# Altium schematic symbol library jlcpcb_2025_04_inductors_extended_1008.schlib: 378 symbols (part 4 of 7)
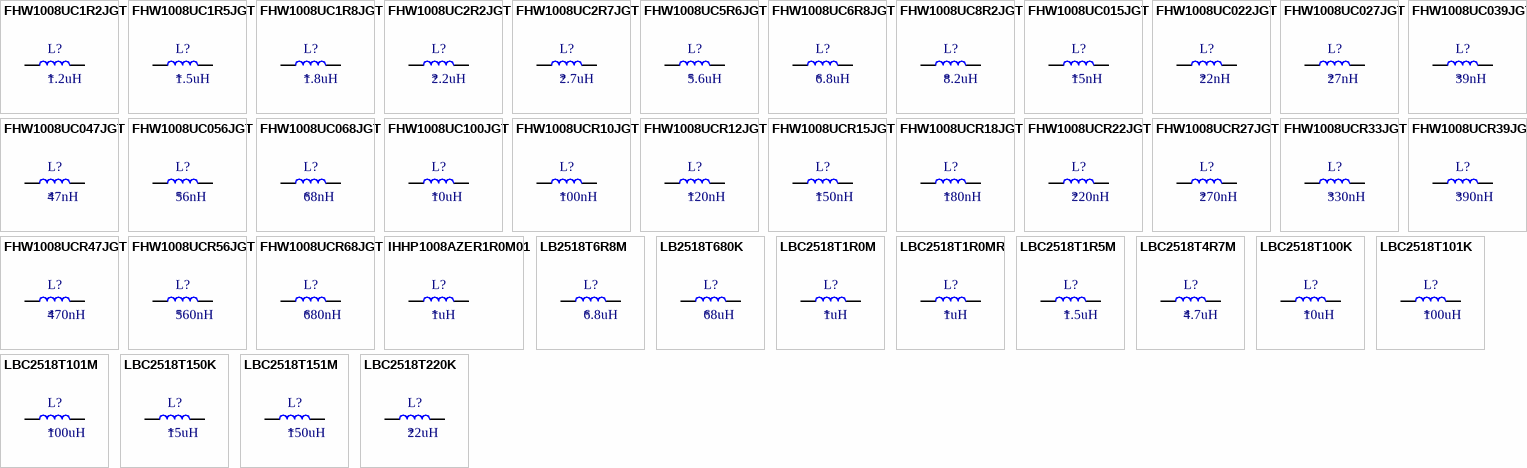
[diagram p12: symbols FHW1008UC1R2JGT to LBC2518T220K]

## LBC2518T151M
designator L?  Inductance: 150uH
Inductor, 150uH, ±20%, 6.1Ω, 95mA, SMD 1008; Manufacturer: Taiyo Yuden; Manufacturer Part Number: LBC2518T151M; Package Size: 1008; JLCPCB Basic Part: No; JLCPCB Part Number: C223355; Supplier 1: LCSC; Category: Inductors; Supplier Part Number 1: C223355; Tolerance: ±20%; Rated Current: 95mA; DC Resistance: 6.1Ω; RoHS: Yes; ComponentLink1Description: Datasheet; ComponentLink1URL: https://wmsc.lcsc.com/wmsc/upload/file/pdf/v2/lcsc/2304140030_Taiyo-Yuden-LBC2518T151M_C223355.pdf; ComponentLink2Description: JLCPCB Part URL; ComponentLink2URL: https://jlcpcb.com/partdetail/C223355; ComponentLink3Description: LCSC Part URL; ComponentLink3URL: https://lcsc.com/product-detail/Inductors-SMD_Taiyo-Yuden-Taiyo-Yuden-LBC2518T151M_C223355.html
footprint IND-1008 (1008 (2520M) Inductor)
pins: 1, 2

## LBC2518T220K
designator L?  Inductance: 22uH
Inductor, 22uH, ±10%, 770mΩ, 250mA, SMD 1008; Manufacturer: Taiyo Yuden; Manufacturer Part Number: LBC2518T220K; Self-Resonant Frequency: 2.52MHz; Package Size: 1008; JLCPCB Basic Part: No; JLCPCB Part Number: C223362; Supplier 1: LCSC; Category: Inductors; Supplier Part Number 1: C223362; Tolerance: ±10%; Rated Current: 250mA; DC Resistance: 770mΩ; RoHS: Yes; ComponentLink1Description: Datasheet; ComponentLink1URL: https://wmsc.lcsc.com/wmsc/upload/file/pdf/v2/lcsc/2304140030_Taiyo-Yuden-LBC2518T220K_C223362.pdf; ComponentLink2Description: JLCPCB Part URL; ComponentLink2URL: https://jlcpcb.com/partdetail/C223362; ComponentLink3Description: LCSC Part URL; ComponentLink3URL: https://lcsc.com/product-detail/Inductors-SMD_Taiyo-Yuden-Taiyo-Yuden-LBC2518T220K_C223362.html
footprint IND-1008 (1008 (2520M) Inductor)
pins: 1, 2

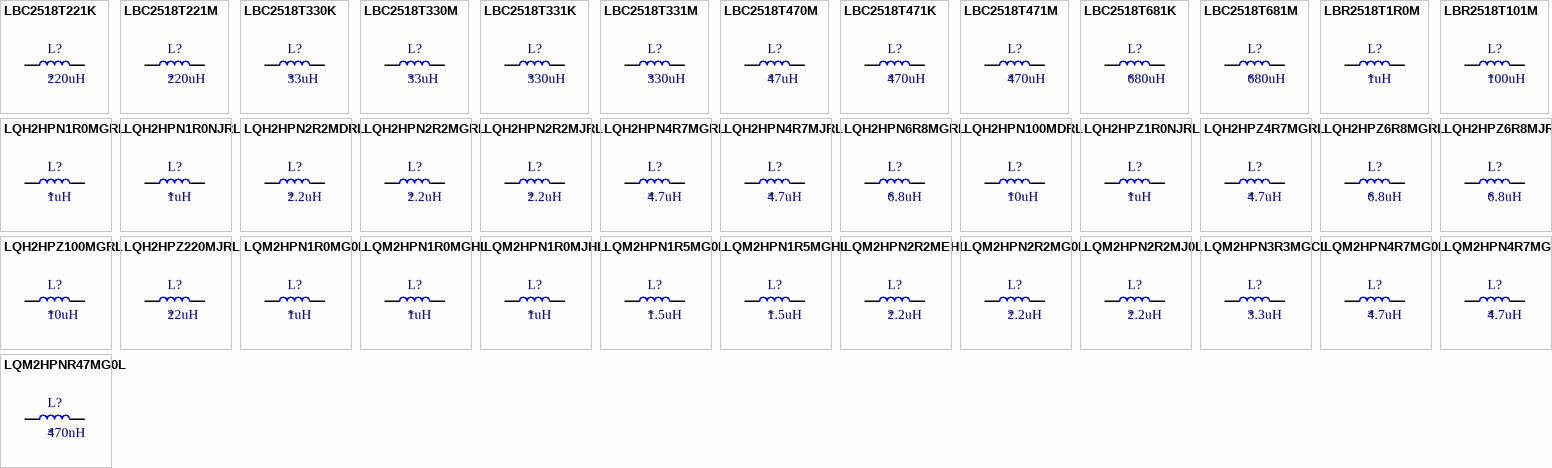
[diagram p4: symbols LBC2518T221K to LQM2HPNR47MG0L]

## LBC2518T221K
designator L?  Inductance: 220uH
Inductor, 220uH, ±10%, 8.4Ω, 80mA, SMD 1008; Manufacturer: Taiyo Yuden; Manufacturer Part Number: LBC2518T221K; Self-Resonant Frequency: 796kHz; Package Size: 1008; JLCPCB Basic Part: No; JLCPCB Part Number: C223367; Supplier 1: LCSC; Category: Inductors; Supplier Part Number 1: C223367; Tolerance: ±10%; Rated Current: 80mA; DC Resistance: 8.4Ω; RoHS: Yes; ComponentLink1Description: Datasheet; ComponentLink1URL: https://wmsc.lcsc.com/wmsc/upload/file/pdf/v2/lcsc/2304140030_Taiyo-Yuden-LBC2518T221K_C223367.pdf; ComponentLink2Description: JLCPCB Part URL; ComponentLink2URL: https://jlcpcb.com/partdetail/C223367; ComponentLink3Description: LCSC Part URL; ComponentLink3URL: https://lcsc.com/product-detail/Inductors-SMD_Taiyo-Yuden-Taiyo-Yuden-LBC2518T221K_C223367.html
footprint IND-1008 (1008 (2520M) Inductor)
pins: 1, 2

## LBC2518T221M
designator L?  Inductance: 220uH
Inductor, 220uH, ±20%, 8.4Ω, 80mA, SMD 1008; Manufacturer: Taiyo Yuden; Manufacturer Part Number: LBC2518T221M; Package Size: 1008; JLCPCB Basic Part: No; JLCPCB Part Number: C223356; Supplier 1: LCSC; Category: Inductors; Supplier Part Number 1: C223356; Tolerance: ±20%; Rated Current: 80mA; DC Resistance: 8.4Ω; RoHS: Yes; ComponentLink1Description: Datasheet; ComponentLink1URL: https://wmsc.lcsc.com/wmsc/upload/file/pdf/v2/lcsc/2304140030_Taiyo-Yuden-LBC2518T221M_C223356.pdf; ComponentLink2Description: JLCPCB Part URL; ComponentLink2URL: https://jlcpcb.com/partdetail/C223356; ComponentLink3Description: LCSC Part URL; ComponentLink3URL: https://lcsc.com/product-detail/Inductors-SMD_Taiyo-Yuden-Taiyo-Yuden-LBC2518T221M_C223356.html
footprint IND-1008 (1008 (2520M) Inductor)
pins: 1, 2

## LBC2518T330K
designator L?  Inductance: 33uH
Inductor, 33uH, ±10%, 1.5Ω, 185mA, SMD 1008; Manufacturer: Taiyo Yuden; Manufacturer Part Number: LBC2518T330K; Package Size: 1008; JLCPCB Basic Part: No; JLCPCB Part Number: C223363; Supplier 1: LCSC; Category: Inductors; Supplier Part Number 1: C223363; Tolerance: ±10%; Rated Current: 185mA; DC Resistance: 1.5Ω; RoHS: Yes; ComponentLink1Description: Datasheet; ComponentLink1URL: https://wmsc.lcsc.com/wmsc/upload/file/pdf/v2/lcsc/2304140030_Taiyo-Yuden-LBC2518T330K_C223363.pdf; ComponentLink2Description: JLCPCB Part URL; ComponentLink2URL: https://jlcpcb.com/partdetail/C223363; ComponentLink3Description: LCSC Part URL; ComponentLink3URL: https://lcsc.com/product-detail/Inductors-SMD_Taiyo-Yuden-Taiyo-Yuden-LBC2518T330K_C223363.html
footprint IND-1008 (1008 (2520M) Inductor)
pins: 1, 2

## LBC2518T330M
designator L?  Inductance: 33uH
Inductor, 33uH, ±20%, 1.5Ω, 185mA, SMD 1008; Manufacturer: Taiyo Yuden; Manufacturer Part Number: LBC2518T330M; Package Size: 1008; JLCPCB Basic Part: No; JLCPCB Part Number: C223351; Supplier 1: LCSC; Category: Inductors; Supplier Part Number 1: C223351; Tolerance: ±20%; Rated Current: 185mA; DC Resistance: 1.5Ω; RoHS: Yes; ComponentLink1Description: Datasheet; ComponentLink1URL: https://wmsc.lcsc.com/wmsc/upload/file/pdf/v2/lcsc/2304140030_Taiyo-Yuden-LBC2518T330M_C223351.pdf; ComponentLink2Description: JLCPCB Part URL; ComponentLink2URL: https://jlcpcb.com/partdetail/C223351; ComponentLink3Description: LCSC Part URL; ComponentLink3URL: https://lcsc.com/product-detail/Inductors-SMD_Taiyo-Yuden-Taiyo-Yuden-LBC2518T330M_C223351.html
footprint IND-1008 (1008 (2520M) Inductor)
pins: 1, 2

## LBC2518T331K
designator L?  Inductance: 330uH
Inductor, 330uH, ±10%, 12.3Ω, 65mA, SMD 1008; Manufacturer: Taiyo Yuden; Manufacturer Part Number: LBC2518T331K; Self-Resonant Frequency: 796kHz; Package Size: 1008; JLCPCB Basic Part: No; JLCPCB Part Number: C223368; Supplier 1: LCSC; Category: Inductors; Supplier Part Number 1: C223368; Tolerance: ±10%; Rated Current: 65mA; DC Resistance: 12.3Ω; RoHS: Yes; ComponentLink1Description: Datasheet; ComponentLink1URL: https://wmsc.lcsc.com/wmsc/upload/file/pdf/v2/lcsc/2304140030_Taiyo-Yuden-LBC2518T331K_C223368.pdf; ComponentLink2Description: JLCPCB Part URL; ComponentLink2URL: https://jlcpcb.com/partdetail/C223368; ComponentLink3Description: LCSC Part URL; ComponentLink3URL: https://lcsc.com/product-detail/Inductors-SMD_Taiyo-Yuden-Taiyo-Yuden-LBC2518T331K_C223368.html
footprint IND-1008 (1008 (2520M) Inductor)
pins: 1, 2

## LBC2518T331M
designator L?  Inductance: 330uH
Inductor, 330uH, ±20%, 12.3Ω, 65mA, SMD 1008; Manufacturer: Taiyo Yuden; Manufacturer Part Number: LBC2518T331M; Package Size: 1008; JLCPCB Basic Part: No; JLCPCB Part Number: C223357; Supplier 1: LCSC; Category: Inductors; Supplier Part Number 1: C223357; Tolerance: ±20%; Rated Current: 65mA; DC Resistance: 12.3Ω; RoHS: Yes; ComponentLink1Description: Datasheet; ComponentLink1URL: https://wmsc.lcsc.com/wmsc/upload/file/pdf/v2/lcsc/2304140030_Taiyo-Yuden-LBC2518T331M_C223357.pdf; ComponentLink2Description: JLCPCB Part URL; ComponentLink2URL: https://jlcpcb.com/partdetail/C223357; ComponentLink3Description: LCSC Part URL; ComponentLink3URL: https://lcsc.com/product-detail/Inductors-SMD_Taiyo-Yuden-Taiyo-Yuden-LBC2518T331M_C223357.html
footprint IND-1008 (1008 (2520M) Inductor)
pins: 1, 2

## LBC2518T470M
designator L?  Inductance: 47uH
Inductor, 47uH, ±20%, 1.9Ω, 165mA, SMD 1008; Manufacturer: Taiyo Yuden; Manufacturer Part Number: LBC2518T470M; Package Size: 1008; JLCPCB Basic Part: No; JLCPCB Part Number: C223352; Supplier 1: LCSC; Category: Inductors; Supplier Part Number 1: C223352; Tolerance: ±20%; Rated Current: 165mA; DC Resistance: 1.9Ω; RoHS: Yes; ComponentLink1Description: Datasheet; ComponentLink1URL: https://wmsc.lcsc.com/wmsc/upload/file/pdf/v2/lcsc/2304140030_Taiyo-Yuden-LBC2518T470M_C223352.pdf; ComponentLink2Description: JLCPCB Part URL; ComponentLink2URL: https://jlcpcb.com/partdetail/C223352; ComponentLink3Description: LCSC Part URL; ComponentLink3URL: https://lcsc.com/product-detail/Inductors-SMD_Taiyo-Yuden-Taiyo-Yuden-LBC2518T470M_C223352.html
footprint IND-1008 (1008 (2520M) Inductor)
pins: 1, 2

## LBC2518T471K
designator L?  Inductance: 470uH
Inductor, 470uH, ±10%, 22Ω, 50mA, SMD 1008; Manufacturer: Taiyo Yuden; Manufacturer Part Number: LBC2518T471K; Self-Resonant Frequency: 796kHz; Package Size: 1008; JLCPCB Basic Part: No; JLCPCB Part Number: C223369; Supplier 1: LCSC; Category: Inductors; Supplier Part Number 1: C223369; Tolerance: ±10%; Rated Current: 50mA; DC Resistance: 22Ω; RoHS: Yes; ComponentLink1Description: Datasheet; ComponentLink1URL: https://wmsc.lcsc.com/wmsc/upload/file/pdf/v2/lcsc/2304140030_Taiyo-Yuden-LBC2518T471K_C223369.pdf; ComponentLink2Description: JLCPCB Part URL; ComponentLink2URL: https://jlcpcb.com/partdetail/C223369; ComponentLink3Description: LCSC Part URL; ComponentLink3URL: https://lcsc.com/product-detail/Inductors-SMD_Taiyo-Yuden-Taiyo-Yuden-LBC2518T471K_C223369.html
footprint IND-1008 (1008 (2520M) Inductor)
pins: 1, 2

## LBC2518T471M
designator L?  Inductance: 470uH
Inductor, 470uH, ±20%, 22Ω, 50mA, SMD 1008; Manufacturer: Taiyo Yuden; Manufacturer Part Number: LBC2518T471M; Self-Resonant Frequency: 796kHz; Package Size: 1008; JLCPCB Basic Part: No; JLCPCB Part Number: C223358; Supplier 1: LCSC; Category: Inductors; Supplier Part Number 1: C223358; Tolerance: ±20%; Rated Current: 50mA; DC Resistance: 22Ω; RoHS: Yes; ComponentLink1Description: Datasheet; ComponentLink1URL: https://wmsc.lcsc.com/wmsc/upload/file/pdf/v2/lcsc/2304140030_Taiyo-Yuden-LBC2518T471M_C223358.pdf; ComponentLink2Description: JLCPCB Part URL; ComponentLink2URL: https://jlcpcb.com/partdetail/C223358; ComponentLink3Description: LCSC Part URL; ComponentLink3URL: https://lcsc.com/product-detail/Inductors-SMD_Taiyo-Yuden-Taiyo-Yuden-LBC2518T471M_C223358.html
footprint IND-1008 (1008 (2520M) Inductor)
pins: 1, 2

## LBC2518T681K
designator L?  Inductance: 680uH
Inductor, 680uH, ±10%, 28Ω, 45mA, SMD 1008; Manufacturer: Taiyo Yuden; Manufacturer Part Number: LBC2518T681K; Package Size: 1008; JLCPCB Basic Part: No; JLCPCB Part Number: C223370; Supplier 1: LCSC; Category: Inductors; Supplier Part Number 1: C223370; Tolerance: ±10%; Rated Current: 45mA; DC Resistance: 28Ω; RoHS: Yes; ComponentLink1Description: Datasheet; ComponentLink1URL: https://wmsc.lcsc.com/wmsc/upload/file/pdf/v2/lcsc/2304140030_Taiyo-Yuden-LBC2518T681K_C223370.pdf; ComponentLink2Description: JLCPCB Part URL; ComponentLink2URL: https://jlcpcb.com/partdetail/C223370; ComponentLink3Description: LCSC Part URL; ComponentLink3URL: https://lcsc.com/product-detail/Inductors-SMD_Taiyo-Yuden-Taiyo-Yuden-LBC2518T681K_C223370.html
footprint IND-1008 (1008 (2520M) Inductor)
pins: 1, 2

## LBC2518T681M
designator L?  Inductance: 680uH
Inductor, 680uH, ±20%, 28Ω, 45mA, SMD 1008; Manufacturer: Taiyo Yuden; Manufacturer Part Number: LBC2518T681M; Self-Resonant Frequency: 796kHz; Package Size: 1008; JLCPCB Basic Part: No; JLCPCB Part Number: C223359; Supplier 1: LCSC; Category: Inductors; Supplier Part Number 1: C223359; Tolerance: ±20%; Rated Current: 45mA; DC Resistance: 28Ω; RoHS: Yes; ComponentLink1Description: Datasheet; ComponentLink1URL: https://wmsc.lcsc.com/wmsc/upload/file/pdf/v2/lcsc/2304140030_Taiyo-Yuden-LBC2518T681M_C223359.pdf; ComponentLink2Description: JLCPCB Part URL; ComponentLink2URL: https://jlcpcb.com/partdetail/C223359; ComponentLink3Description: LCSC Part URL; ComponentLink3URL: https://lcsc.com/product-detail/Inductors-SMD_Taiyo-Yuden-Taiyo-Yuden-LBC2518T681M_C223359.html
footprint IND-1008 (1008 (2520M) Inductor)
pins: 1, 2

## LBR2518T1R0M
designator L?  Inductance: 1uH
Inductor, 1uH, ±20%, 45mΩ, 960mA, SMD 1008; Manufacturer: Taiyo Yuden; Manufacturer Part Number: LBR2518T1R0M; Self-Resonant Frequency: 7.96MHz; Package Size: 1008; JLCPCB Basic Part: No; JLCPCB Part Number: C223371; Supplier 1: LCSC; Category: Inductors; Supplier Part Number 1: C223371; Tolerance: ±20%; Rated Current: 960mA; DC Resistance: 45mΩ; RoHS: Yes; ComponentLink1Description: Datasheet; ComponentLink1URL: https://wmsc.lcsc.com/wmsc/upload/file/pdf/v2/lcsc/2304140030_Taiyo-Yuden-LBR2518T1R0M_C223371.pdf; ComponentLink2Description: JLCPCB Part URL; ComponentLink2URL: https://jlcpcb.com/partdetail/C223371; ComponentLink3Description: LCSC Part URL; ComponentLink3URL: https://lcsc.com/product-detail/Inductors-SMD_Taiyo-Yuden-Taiyo-Yuden-LBR2518T1R0M_C223371.html
footprint IND-1008 (1008 (2520M) Inductor)
pins: 1, 2

## LBR2518T101M
designator L?  Inductance: 100uH
Inductor, 100uH, ±20%, 1.89Ω, 80mA, SMD 1008; Manufacturer: Taiyo Yuden; Manufacturer Part Number: LBR2518T101M; Self-Resonant Frequency: 796kHz; Package Size: 1008; JLCPCB Basic Part: No; JLCPCB Part Number: C223378; Supplier 1: LCSC; Category: Inductors; Supplier Part Number 1: C223378; Tolerance: ±20%; Rated Current: 80mA; DC Resistance: 1.89Ω; RoHS: Yes; ComponentLink1Description: Datasheet; ComponentLink1URL: https://wmsc.lcsc.com/wmsc/upload/file/pdf/v2/lcsc/2304140030_Taiyo-Yuden-LBR2518T101M_C223378.pdf; ComponentLink2Description: JLCPCB Part URL; ComponentLink2URL: https://jlcpcb.com/partdetail/C223378; ComponentLink3Description: LCSC Part URL; ComponentLink3URL: https://lcsc.com/product-detail/Inductors-SMD_Taiyo-Yuden-Taiyo-Yuden-LBR2518T101M_C223378.html
footprint IND-1008 (1008 (2520M) Inductor)
pins: 1, 2

## LQH2HPN1R0MGRL
designator L?  Inductance: 1uH
Inductor, 1uH, ±20%, 68mΩ, 2.1A, SMD 1008; Manufacturer: Murata Electronics; Manufacturer Part Number: LQH2HPN1R0MGRL; Saturation Current: 2.13A; Package Size: 1008; JLCPCB Basic Part: No; JLCPCB Part Number: C269783; Supplier 1: LCSC; Category: Inductors; Supplier Part Number 1: C269783; Tolerance: ±20%; Rated Current: 2.1A; DC Resistance: 68mΩ; RoHS: Yes; ComponentLink1Description: Datasheet; ComponentLink1URL: https://wmsc.lcsc.com/wmsc/upload/file/pdf/v2/lcsc/2304140030_Murata-Electronics-LQH2HPN1R0MGRL_C269783.pdf; ComponentLink2Description: JLCPCB Part URL; ComponentLink2URL: https://jlcpcb.com/partdetail/C269783; ComponentLink3Description: LCSC Part URL; ComponentLink3URL: https://lcsc.com/product-detail/Power-Inductors_Murata-Electronics-Murata-Electronics-LQH2HPN1R0MGRL_C269783.html
footprint IND-1008 (1008 (2520M) Inductor)
pins: 1, 2

## LQH2HPN1R0NJRL
designator L?  Inductance: 1uH
Inductor, 1uH, ±30%, 48mΩ, 1.44A, SMD 1008; Manufacturer: Murata Electronics; Manufacturer Part Number: LQH2HPN1R0NJRL; Saturation Current: 2.6A; Self-Resonant Frequency: 120MHz; Package Size: 1008; JLCPCB Basic Part: No; JLCPCB Part Number: C711114; Supplier 1: LCSC; Category: Inductors; Supplier Part Number 1: C711114; Tolerance: ±30%; Rated Current: 1.44A; DC Resistance: 48mΩ; RoHS: Yes; ComponentLink1Description: Datasheet; ComponentLink1URL: https://wmsc.lcsc.com/wmsc/upload/file/pdf/v2/lcsc/2304140030_Murata-Electronics-LQH2HPN1R0NJRL_C711114.pdf; ComponentLink2Description: JLCPCB Part URL; ComponentLink2URL: https://jlcpcb.com/partdetail/C711114; ComponentLink3Description: LCSC Part URL; ComponentLink3URL: https://lcsc.com/product-detail/Inductors-SMD_Murata-Electronics-Murata-Electronics-LQH2HPN1R0NJRL_C711114.html
footprint IND-1008 (1008 (2520M) Inductor)
pins: 1, 2

## LQH2HPN2R2MDRL
designator L?  Inductance: 2.2uH
Inductor, 2.2uH, ±20%, 340mΩ, 820mA, SMD 1008; Manufacturer: Murata Electronics; Manufacturer Part Number: LQH2HPN2R2MDRL; Saturation Current: 850mA; Package Size: 1008; JLCPCB Basic Part: No; JLCPCB Part Number: C2042740; Supplier 1: LCSC; Category: Inductors; Supplier Part Number 1: C2042740; Tolerance: ±20%; Rated Current: 820mA; DC Resistance: 340mΩ; RoHS: Yes; ComponentLink1Description: Datasheet; ComponentLink1URL: https://wmsc.lcsc.com/wmsc/upload/file/pdf/v2/lcsc/2304140030_Murata-Electronics-LQH2HPN2R2MDRL_C2042740.pdf; ComponentLink2Description: JLCPCB Part URL; ComponentLink2URL: https://jlcpcb.com/partdetail/C2042740; ComponentLink3Description: LCSC Part URL; ComponentLink3URL: https://lcsc.com/product-detail/Power-Inductors_Murata-Electronics-Murata-Electronics-LQH2HPN2R2MDRL_C2042740.html
footprint IND-1008 (1008 (2520M) Inductor)
pins: 1, 2

## LQH2HPN2R2MGRL
designator L?  Inductance: 2.2uH
Inductor, 2.2uH, ±20%, 134mΩ, SMD 1008; Manufacturer: Murata Electronics; Manufacturer Part Number: LQH2HPN2R2MGRL; Self-Resonant Frequency: 80MHz; Package Size: 1008; JLCPCB Basic Part: No; JLCPCB Part Number: C237484; Supplier 1: LCSC; Category: Inductors; Supplier Part Number 1: C237484; Tolerance: ±20%; DC Resistance: 134mΩ; RoHS: Yes; ComponentLink1Description: Datasheet; ComponentLink1URL: https://wmsc.lcsc.com/wmsc/upload/file/pdf/v2/lcsc/1811151159_Murata-Electronics-LQH2HPN2R2MGRL_C237484.pdf; ComponentLink2Description: JLCPCB Part URL; ComponentLink2URL: https://jlcpcb.com/partdetail/C237484; ComponentLink3Description: LCSC Part URL; ComponentLink3URL: https://lcsc.com/product-detail/Inductors-SMD_Murata-Electronics-Murata-Electronics-LQH2HPN2R2MGRL_C237484.html
footprint IND-1008 (1008 (2520M) Inductor)
pins: 1, 2

## LQH2HPN2R2MJRL
designator L?  Inductance: 2.2uH
Inductor, 2.2uH, ±20%, 110.4mΩ, 990mA, SMD 1008; Manufacturer: Murata Electronics; Manufacturer Part Number: LQH2HPN2R2MJRL; Saturation Current: 1.7A; Package Size: 1008; JLCPCB Basic Part: No; JLCPCB Part Number: C668447; Supplier 1: LCSC; Category: Inductors; Supplier Part Number 1: C668447; Tolerance: ±20%; Rated Current: 990mA; DC Resistance: 110.4mΩ; RoHS: Yes; ComponentLink1Description: Datasheet; ComponentLink1URL: https://wmsc.lcsc.com/wmsc/upload/file/pdf/v2/lcsc/2204191800_Murata-Electronics-LQH2HPN2R2MJRL_C668447.pdf; ComponentLink2Description: JLCPCB Part URL; ComponentLink2URL: https://jlcpcb.com/partdetail/C668447; ComponentLink3Description: LCSC Part URL; ComponentLink3URL: https://lcsc.com/product-detail/Power-Inductors_Murata-Electronics-Murata-Electronics-LQH2HPN2R2MJRL_C668447.html
footprint IND-1008 (1008 (2520M) Inductor)
pins: 1, 2

## LQH2HPN4R7MGRL
designator L?  Inductance: 4.7uH
Inductor, 4.7uH, ±20%, 300mΩ, 1A, SMD 1008; Manufacturer: Murata Electronics; Manufacturer Part Number: LQH2HPN4R7MGRL; Saturation Current: 1.09A; Package Size: 1008; JLCPCB Basic Part: No; JLCPCB Part Number: C337899; Supplier 1: LCSC; Category: Inductors; Supplier Part Number 1: C337899; Tolerance: ±20%; Rated Current: 1A; DC Resistance: 300mΩ; RoHS: Yes; ComponentLink1Description: Datasheet; ComponentLink1URL: https://wmsc.lcsc.com/wmsc/upload/file/pdf/v2/lcsc/2304140030_Murata-Electronics-LQH2HPN4R7MGRL_C337899.pdf; ComponentLink2Description: JLCPCB Part URL; ComponentLink2URL: https://jlcpcb.com/partdetail/C337899; ComponentLink3Description: LCSC Part URL; ComponentLink3URL: https://lcsc.com/product-detail/Power-Inductors_Murata-Electronics-Murata-Electronics-LQH2HPN4R7MGRL_C337899.html
footprint IND-1008 (1008 (2520M) Inductor)
pins: 1, 2

## LQH2HPN4R7MJRL
designator L?  Inductance: 4.7uH
Inductor, 4.7uH, ±20%, 170mΩ, 770mA, SMD 1008; Manufacturer: Murata Electronics; Manufacturer Part Number: LQH2HPN4R7MJRL; Saturation Current: 1.23A; Self-Resonant Frequency: 40MHz; Package Size: 1008; JLCPCB Basic Part: No; JLCPCB Part Number: C521235; Supplier 1: LCSC; Category: Inductors; Supplier Part Number 1: C521235; Tolerance: ±20%; Rated Current: 770mA; DC Resistance: 170mΩ; RoHS: Yes; ComponentLink1Description: Datasheet; ComponentLink1URL: https://wmsc.lcsc.com/wmsc/upload/file/pdf/v2/lcsc/2304140030_Murata-Electronics-LQH2HPN4R7MJRL_C521235.pdf; ComponentLink2Description: JLCPCB Part URL; ComponentLink2URL: https://jlcpcb.com/partdetail/C521235; ComponentLink3Description: LCSC Part URL; ComponentLink3URL: https://lcsc.com/product-detail/Inductors-SMD_Murata-Electronics-Murata-Electronics-LQH2HPN4R7MJRL_C521235.html
footprint IND-1008 (1008 (2520M) Inductor)
pins: 1, 2

## LQH2HPN6R8MGRL
designator L?  Inductance: 6.8uH
Inductor, 6.8uH, ±20%, 395mΩ, SMD 1008; Manufacturer: Murata Electronics; Manufacturer Part Number: LQH2HPN6R8MGRL; Saturation Current: 830mA; Package Size: 1008; JLCPCB Basic Part: No; JLCPCB Part Number: C2047309; Supplier 1: LCSC; Category: Inductors; Supplier Part Number 1: C2047309; Tolerance: ±20%; DC Resistance: 395mΩ; RoHS: Yes; ComponentLink1Description: Datasheet; ComponentLink1URL: https://wmsc.lcsc.com/wmsc/upload/file/pdf/v2/lcsc/2202010330_Murata-Electronics-LQH2HPN6R8MGRL_C2047309.pdf; ComponentLink2Description: JLCPCB Part URL; ComponentLink2URL: https://jlcpcb.com/partdetail/C2047309; ComponentLink3Description: LCSC Part URL; ComponentLink3URL: https://lcsc.com/product-detail/Power-Inductors_Murata-Electronics-Murata-Electronics-LQH2HPN6R8MGRL_C2047309.html
footprint IND-1008 (1008 (2520M) Inductor)
pins: 1, 2

## LQH2HPN100MDRL
designator L?  Inductance: 10uH
Inductor, 10uH, ±20%, 1.2Ω, SMD 1008; Manufacturer: Murata Electronics; Manufacturer Part Number: LQH2HPN100MDRL; Saturation Current: 420mA; Package Size: 1008; JLCPCB Basic Part: No; JLCPCB Part Number: C2044798; Supplier 1: LCSC; Category: Inductors; Supplier Part Number 1: C2044798; Tolerance: ±20%; DC Resistance: 1.2Ω; RoHS: Yes; ComponentLink1Description: Datasheet; ComponentLink1URL: https://wmsc.lcsc.com/wmsc/upload/file/pdf/v2/lcsc/2304140030_Murata-Electronics-LQH2HPN100MDRL_C2044798.pdf; ComponentLink2Description: JLCPCB Part URL; ComponentLink2URL: https://jlcpcb.com/partdetail/C2044798; ComponentLink3Description: LCSC Part URL; ComponentLink3URL: https://lcsc.com/product-detail/Power-Inductors_Murata-Electronics-Murata-Electronics-LQH2HPN100MDRL_C2044798.html
footprint IND-1008 (1008 (2520M) Inductor)
pins: 1, 2

## LQH2HPZ1R0NJRL
designator L?  Inductance: 1uH
Inductor, 1uH, ±30%, 48mΩ, 2.4A, SMD 1008; Manufacturer: Murata Electronics; Manufacturer Part Number: LQH2HPZ1R0NJRL; Saturation Current: 2.6A; Package Size: 1008; JLCPCB Basic Part: No; JLCPCB Part Number: C711119; Supplier 1: LCSC; Category: Inductors; Supplier Part Number 1: C711119; Tolerance: ±30%; Rated Current: 2.4A; DC Resistance: 48mΩ; RoHS: Yes; ComponentLink1Description: Datasheet; ComponentLink1URL: https://wmsc.lcsc.com/wmsc/upload/file/pdf/v2/lcsc/2304140030_Murata-Electronics-LQH2HPZ1R0NJRL_C711119.pdf; ComponentLink2Description: JLCPCB Part URL; ComponentLink2URL: https://jlcpcb.com/partdetail/C711119; ComponentLink3Description: LCSC Part URL; ComponentLink3URL: https://lcsc.com/product-detail/Power-Inductors_Murata-Electronics-Murata-Electronics-LQH2HPZ1R0NJRL_C711119.html
footprint IND-1008 (1008 (2520M) Inductor)
pins: 1, 2

## LQH2HPZ4R7MGRL
designator L?  Inductance: 4.7uH
Inductor, 4.7uH, ±20%, 300mΩ, 1A, SMD 1008; Manufacturer: Murata Electronics; Manufacturer Part Number: LQH2HPZ4R7MGRL; Saturation Current: 1.09A; Package Size: 1008; JLCPCB Basic Part: No; JLCPCB Part Number: C711123; Supplier 1: LCSC; Category: Inductors; Supplier Part Number 1: C711123; Tolerance: ±20%; Rated Current: 1A; DC Resistance: 300mΩ; RoHS: Yes; ComponentLink1Description: Datasheet; ComponentLink1URL: https://wmsc.lcsc.com/wmsc/upload/file/pdf/v2/lcsc/2304140030_Murata-Electronics-LQH2HPZ4R7MGRL_C711123.pdf; ComponentLink2Description: JLCPCB Part URL; ComponentLink2URL: https://jlcpcb.com/partdetail/C711123; ComponentLink3Description: LCSC Part URL; ComponentLink3URL: https://lcsc.com/product-detail/Power-Inductors_Murata-Electronics-Murata-Electronics-LQH2HPZ4R7MGRL_C711123.html
footprint IND-1008 (1008 (2520M) Inductor)
pins: 1, 2

## LQH2HPZ6R8MGRL
designator L?  Inductance: 6.8uH
Inductor, 6.8uH, ±20%, 395mΩ, SMD 1008; Manufacturer: Murata Electronics; Manufacturer Part Number: LQH2HPZ6R8MGRL; Saturation Current: 830mA; Package Size: 1008; JLCPCB Basic Part: No; JLCPCB Part Number: C703077; Supplier 1: LCSC; Category: Inductors; Supplier Part Number 1: C703077; Tolerance: ±20%; DC Resistance: 395mΩ; RoHS: Yes; ComponentLink1Description: Datasheet; ComponentLink1URL: https://wmsc.lcsc.com/wmsc/upload/file/pdf/v2/lcsc/2304140030_Murata-Electronics-LQH2HPZ6R8MGRL_C703077.pdf; ComponentLink2Description: JLCPCB Part URL; ComponentLink2URL: https://jlcpcb.com/partdetail/C703077; ComponentLink3Description: LCSC Part URL; ComponentLink3URL: https://lcsc.com/product-detail/Power-Inductors_Murata-Electronics-Murata-Electronics-LQH2HPZ6R8MGRL_C703077.html
footprint IND-1008 (1008 (2520M) Inductor)
pins: 1, 2

## LQH2HPZ6R8MJRL
designator L?  Inductance: 6.8uH
Inductor, 6.8uH, ±20%, 260mΩ, 1A, SMD 1008; Manufacturer: Murata Electronics; Manufacturer Part Number: LQH2HPZ6R8MJRL; Saturation Current: 1.05A; Self-Resonant Frequency: 35MHz; Package Size: 1008; JLCPCB Basic Part: No; JLCPCB Part Number: C711125; Supplier 1: LCSC; Category: Inductors; Supplier Part Number 1: C711125; Tolerance: ±20%; Rated Current: 1A; DC Resistance: 260mΩ; RoHS: Yes; ComponentLink1Description: Datasheet; ComponentLink1URL: https://wmsc.lcsc.com/wmsc/upload/file/pdf/v2/lcsc/2304140030_Murata-Electronics-LQH2HPZ6R8MJRL_C711125.pdf; ComponentLink2Description: JLCPCB Part URL; ComponentLink2URL: https://jlcpcb.com/partdetail/C711125; ComponentLink3Description: LCSC Part URL; ComponentLink3URL: https://lcsc.com/product-detail/Inductors-SMD_Murata-Electronics-Murata-Electronics-LQH2HPZ6R8MJRL_C711125.html
footprint IND-1008 (1008 (2520M) Inductor)
pins: 1, 2

## LQH2HPZ100MGRL
designator L?  Inductance: 10uH
Inductor, 10uH, ±20%, 560mΩ, SMD 1008; Manufacturer: Murata Electronics; Manufacturer Part Number: LQH2HPZ100MGRL; Saturation Current: 700mA; Package Size: 1008; JLCPCB Basic Part: No; JLCPCB Part Number: C2042388; Supplier 1: LCSC; Category: Inductors; Supplier Part Number 1: C2042388; Tolerance: ±20%; DC Resistance: 560mΩ; RoHS: Yes; ComponentLink1Description: Datasheet; ComponentLink1URL: https://wmsc.lcsc.com/wmsc/upload/file/pdf/v2/lcsc/2304140030_Murata-Electronics-LQH2HPZ100MGRL_C2042388.pdf; ComponentLink2Description: JLCPCB Part URL; ComponentLink2URL: https://jlcpcb.com/partdetail/C2042388; ComponentLink3Description: LCSC Part URL; ComponentLink3URL: https://lcsc.com/product-detail/Power-Inductors_Murata-Electronics-Murata-Electronics-LQH2HPZ100MGRL_C2042388.html
footprint IND-1008 (1008 (2520M) Inductor)
pins: 1, 2

## LQH2HPZ220MJRL
designator L?  Inductance: 22uH
Inductor, 22uH, ±20%, 840mΩ, SMD 1008; Manufacturer: Murata Electronics; Manufacturer Part Number: LQH2HPZ220MJRL; Self-Resonant Frequency: 20MHz; Package Size: 1008; JLCPCB Basic Part: No; JLCPCB Part Number: C703128; Supplier 1: LCSC; Category: Inductors; Supplier Part Number 1: C703128; Tolerance: ±20%; DC Resistance: 840mΩ; RoHS: Yes; ComponentLink1Description: Datasheet; ComponentLink1URL: https://wmsc.lcsc.com/wmsc/upload/file/pdf/v2/lcsc/2304140030_Murata-Electronics-LQH2HPZ220MJRL_C703128.pdf; ComponentLink2Description: JLCPCB Part URL; ComponentLink2URL: https://jlcpcb.com/partdetail/C703128; ComponentLink3Description: LCSC Part URL; ComponentLink3URL: https://lcsc.com/product-detail/Inductors-SMD_Murata-Electronics-Murata-Electronics-LQH2HPZ220MJRL_C703128.html
footprint IND-1008 (1008 (2520M) Inductor)
pins: 1, 2

## LQM2HPN1R0MG0L
designator L?  Inductance: 1uH
Inductor, 1uH, ±20%, 69mΩ, 1.6A, SMD 1008; Manufacturer: Murata Electronics; Manufacturer Part Number: LQM2HPN1R0MG0L; Self-Resonant Frequency: 1MHz; Package Size: 1008; JLCPCB Basic Part: No; JLCPCB Part Number: C86091; Supplier 1: LCSC; Category: Inductors; Supplier Part Number 1: C86091; Tolerance: ±20%; Rated Current: 1.6A; DC Resistance: 69mΩ; RoHS: Yes; ComponentLink1Description: Datasheet; ComponentLink1URL: https://wmsc.lcsc.com/wmsc/upload/file/pdf/v2/lcsc/2304140030_Murata-Electronics-LQM2HPN1R0MG0L_C86091.pdf; ComponentLink2Description: JLCPCB Part URL; ComponentLink2URL: https://jlcpcb.com/partdetail/C86091; ComponentLink3Description: LCSC Part URL; ComponentLink3URL: https://lcsc.com/product-detail/Inductors-SMD_Murata-Electronics-Murata-Electronics-LQM2HPN1R0MG0L_C86091.html
footprint IND-1008 (1008 (2520M) Inductor)
pins: 1, 2

## LQM2HPN1R0MGHL
designator L?  Inductance: 1uH
Inductor, 1uH, ±20%, 50mΩ, 2A, SMD 1008; Manufacturer: Murata Electronics; Manufacturer Part Number: LQM2HPN1R0MGHL; Self-Resonant Frequency: 50MHz; Package Size: 1008; JLCPCB Basic Part: No; JLCPCB Part Number: C162587; Supplier 1: LCSC; Category: Inductors; Supplier Part Number 1: C162587; Tolerance: ±20%; Rated Current: 2A; Saturation Current: 2A; DC Resistance: 50mΩ; RoHS: Yes; ComponentLink1Description: Datasheet; ComponentLink1URL: https://wmsc.lcsc.com/wmsc/upload/file/pdf/v2/lcsc/2304140030_Murata-Electronics-LQM2HPN1R0MGHL_C162587.pdf; ComponentLink2Description: JLCPCB Part URL; ComponentLink2URL: https://jlcpcb.com/partdetail/C162587; ComponentLink3Description: LCSC Part URL; ComponentLink3URL: https://lcsc.com/product-detail/Inductors-SMD_Murata-Electronics-Murata-Electronics-LQM2HPN1R0MGHL_C162587.html
footprint IND-1008 (1008 (2520M) Inductor)
pins: 1, 2

## LQM2HPN1R0MJHL
designator L?  Inductance: 1uH
Inductor, 1uH, ±20%, 50mΩ, SMD 1008; Manufacturer: Murata Electronics; Manufacturer Part Number: LQM2HPN1R0MJHL; Saturation Current: 2.1A; Self-Resonant Frequency: 50MHz; Package Size: 1008; JLCPCB Basic Part: No; JLCPCB Part Number: C2043089; Supplier 1: LCSC; Category: Inductors; Supplier Part Number 1: C2043089; Tolerance: ±20%; DC Resistance: 50mΩ; RoHS: Yes; ComponentLink1Description: Datasheet; ComponentLink1URL: https://wmsc.lcsc.com/wmsc/upload/file/pdf/v2/lcsc/2304140030_Murata-Electronics-LQM2HPN1R0MJHL_C2043089.pdf; ComponentLink2Description: JLCPCB Part URL; ComponentLink2URL: https://jlcpcb.com/partdetail/C2043089; ComponentLink3Description: LCSC Part URL; ComponentLink3URL: https://lcsc.com/product-detail/Inductors-SMD_Murata-Electronics-Murata-Electronics-LQM2HPN1R0MJHL_C2043089.html
footprint IND-1008 (1008 (2520M) Inductor)
pins: 1, 2

## LQM2HPN1R5MG0L
designator L?  Inductance: 1.5uH
Inductor, 1.5uH, ±20%, 88mΩ, 1.5A, SMD 1008; Manufacturer: Murata Electronics; Manufacturer Part Number: LQM2HPN1R5MG0L; Self-Resonant Frequency: 1MHz; Package Size: 1008; JLCPCB Basic Part: No; JLCPCB Part Number: C98034; Supplier 1: LCSC; Category: Inductors; Supplier Part Number 1: C98034; Tolerance: ±20%; Rated Current: 1.5A; DC Resistance: 88mΩ; RoHS: Yes; ComponentLink1Description: Datasheet; ComponentLink1URL: https://wmsc.lcsc.com/wmsc/upload/file/pdf/v2/lcsc/1810241533_Murata-Electronics-LQM2HPN1R5MG0L_C98034.pdf; ComponentLink2Description: JLCPCB Part URL; ComponentLink2URL: https://jlcpcb.com/partdetail/C98034; ComponentLink3Description: LCSC Part URL; ComponentLink3URL: https://lcsc.com/product-detail/Inductors-SMD_Murata-Electronics-Murata-Electronics-LQM2HPN1R5MG0L_C98034.html
footprint IND-1008 (1008 (2520M) Inductor)
pins: 1, 2

## LQM2HPN1R5MGHL
designator L?  Inductance: 1.5uH
Inductor, 1.5uH, ±20%, 65mΩ, SMD 1008; Manufacturer: Murata Electronics; Manufacturer Part Number: LQM2HPN1R5MGHL; Saturation Current: 1.5A; Self-Resonant Frequency: 40MHz; Package Size: 1008; JLCPCB Basic Part: No; JLCPCB Part Number: C2049909; Supplier 1: LCSC; Category: Inductors; Supplier Part Number 1: C2049909; Tolerance: ±20%; DC Resistance: 65mΩ; RoHS: Yes; ComponentLink1Description: Datasheet; ComponentLink1URL: https://wmsc.lcsc.com/wmsc/upload/file/pdf/v2/lcsc/2202010500_Murata-Electronics-LQM2HPN1R5MGHL_C2049909.pdf; ComponentLink2Description: JLCPCB Part URL; ComponentLink2URL: https://jlcpcb.com/partdetail/C2049909; ComponentLink3Description: LCSC Part URL; ComponentLink3URL: https://lcsc.com/product-detail/Inductors-SMD_Murata-Electronics-Murata-Electronics-LQM2HPN1R5MGHL_C2049909.html
footprint IND-1008 (1008 (2520M) Inductor)
pins: 1, 2

## LQM2HPN2R2MEHL
designator L?  Inductance: 2.2uH
Inductor, 2.2uH, ±20%, 150mΩ, 1.3A, SMD 1008; Manufacturer: Murata Electronics; Manufacturer Part Number: LQM2HPN2R2MEHL; Saturation Current: 800mA; Self-Resonant Frequency: 30MHz; Package Size: 1008; JLCPCB Basic Part: No; JLCPCB Part Number: C171754; Supplier 1: LCSC; Category: Inductors; Supplier Part Number 1: C171754; Tolerance: ±20%; Rated Current: 1.3A; DC Resistance: 150mΩ; RoHS: Yes; ComponentLink1Description: Datasheet; ComponentLink1URL: https://wmsc.lcsc.com/wmsc/upload/file/pdf/v2/lcsc/1810250908_Murata-Electronics-LQM2HPN2R2MEHL_C171754.pdf; ComponentLink2Description: JLCPCB Part URL; ComponentLink2URL: https://jlcpcb.com/partdetail/C171754; ComponentLink3Description: LCSC Part URL; ComponentLink3URL: https://lcsc.com/product-detail/Inductors-SMD_Murata-Electronics-Murata-Electronics-LQM2HPN2R2MEHL_C171754.html
footprint IND-1008 (1008 (2520M) Inductor)
pins: 1, 2

## LQM2HPN2R2MG0L
designator L?  Inductance: 2.2uH
Inductor, 2.2uH, ±20%, 100mΩ, 1.3A, SMD 1008; Manufacturer: Murata Electronics; Manufacturer Part Number: LQM2HPN2R2MG0L; Package Size: 1008; JLCPCB Basic Part: No; JLCPCB Part Number: C86092; Supplier 1: LCSC; Category: Inductors; Supplier Part Number 1: C86092; Tolerance: ±20%; Rated Current: 1.3A; DC Resistance: 100mΩ; RoHS: Yes; ComponentLink1Description: Datasheet; ComponentLink1URL: https://wmsc.lcsc.com/wmsc/upload/file/pdf/v2/lcsc/1810311811_Murata-Electronics-LQM2HPN2R2MG0L_C86092.pdf; ComponentLink2Description: JLCPCB Part URL; ComponentLink2URL: https://jlcpcb.com/partdetail/C86092; ComponentLink3Description: LCSC Part URL; ComponentLink3URL: https://lcsc.com/product-detail/Inductors-SMD_Murata-Electronics-Murata-Electronics-LQM2HPN2R2MG0L_C86092.html
footprint IND-1008 (1008 (2520M) Inductor)
pins: 1, 2

## LQM2HPN2R2MJ0L
designator L?  Inductance: 2.2uH
Inductor, 2.2uH, ±20%, 150mΩ, 1A, SMD 1008; Manufacturer: Murata Electronics; Manufacturer Part Number: LQM2HPN2R2MJ0L; Self-Resonant Frequency: 1MHz; Package Size: 1008; JLCPCB Basic Part: No; JLCPCB Part Number: C113101; Supplier 1: LCSC; Category: Inductors; Supplier Part Number 1: C113101; Tolerance: ±20%; Rated Current: 1A; DC Resistance: 150mΩ; RoHS: Yes; ComponentLink1Description: Datasheet; ComponentLink1URL: https://wmsc.lcsc.com/wmsc/upload/file/pdf/v2/lcsc/1811071720_Murata-Electronics-LQM2HPN2R2MJ0L_C113101.pdf; ComponentLink2Description: JLCPCB Part URL; ComponentLink2URL: https://jlcpcb.com/partdetail/C113101; ComponentLink3Description: LCSC Part URL; ComponentLink3URL: https://lcsc.com/product-detail/Inductors-SMD_Murata-Electronics-Murata-Electronics-LQM2HPN2R2MJ0L_C113101.html
footprint IND-1008 (1008 (2520M) Inductor)
pins: 1, 2

## LQM2HPN3R3MGCL
designator L?  Inductance: 3.3uH
Inductor, 3.3uH, ±20%, 160mΩ, 1A, SMD 1008; Manufacturer: Murata Electronics; Manufacturer Part Number: LQM2HPN3R3MGCL; Self-Resonant Frequency: 30MHz; Package Size: 1008; JLCPCB Basic Part: No; JLCPCB Part Number: C703744; Supplier 1: LCSC; Category: Inductors; Supplier Part Number 1: C703744; Tolerance: ±20%; Rated Current: 1A; DC Resistance: 160mΩ; RoHS: Yes; ComponentLink1Description: Datasheet; ComponentLink1URL: https://wmsc.lcsc.com/wmsc/upload/file/pdf/v2/lcsc/2304140030_Murata-Electronics-LQM2HPN3R3MGCL_C703744.pdf; ComponentLink2Description: JLCPCB Part URL; ComponentLink2URL: https://jlcpcb.com/partdetail/C703744; ComponentLink3Description: LCSC Part URL; ComponentLink3URL: https://lcsc.com/product-detail/Inductors-SMD_Murata-Electronics-Murata-Electronics-LQM2HPN3R3MGCL_C703744.html
footprint IND-1008 (1008 (2520M) Inductor)
pins: 1, 2

## LQM2HPN4R7MG0L
designator L?  Inductance: 4.7uH
Inductor, 4.7uH, ±20%, 138mΩ, 1.1A, SMD 1008; Manufacturer: Murata Electronics; Manufacturer Part Number: LQM2HPN4R7MG0L; Self-Resonant Frequency: 1MHz; Package Size: 1008; JLCPCB Basic Part: No; JLCPCB Part Number: C82314; Supplier 1: LCSC; Category: Inductors; Supplier Part Number 1: C82314; Tolerance: ±20%; Rated Current: 1.1A; DC Resistance: 138mΩ; RoHS: Yes; ComponentLink1Description: Datasheet; ComponentLink1URL: https://wmsc.lcsc.com/wmsc/upload/file/pdf/v2/lcsc/1810241533_Murata-Electronics-LQM2HPN4R7MG0L_C82314.pdf; ComponentLink2Description: JLCPCB Part URL; ComponentLink2URL: https://jlcpcb.com/partdetail/C82314; ComponentLink3Description: LCSC Part URL; ComponentLink3URL: https://lcsc.com/product-detail/Inductors-SMD_Murata-Electronics-Murata-Electronics-LQM2HPN4R7MG0L_C82314.html
footprint IND-1008 (1008 (2520M) Inductor)
pins: 1, 2

## LQM2HPN4R7MGCL
designator L?  Inductance: 4.7uH
Inductor, 4.7uH, ±20%, 225mΩ, 800mA, SMD 1008; Manufacturer: Murata Electronics; Manufacturer Part Number: LQM2HPN4R7MGCL; Package Size: 1008; JLCPCB Basic Part: No; JLCPCB Part Number: C87065; Supplier 1: LCSC; Category: Inductors; Supplier Part Number 1: C87065; Tolerance: ±20%; Rated Current: 800mA; DC Resistance: 225mΩ; RoHS: Yes; ComponentLink1Description: Datasheet; ComponentLink1URL: https://wmsc.lcsc.com/wmsc/upload/file/pdf/v2/lcsc/2304140030_Murata-Electronics-LQM2HPN4R7MGCL_C87065.pdf; ComponentLink2Description: JLCPCB Part URL; ComponentLink2URL: https://jlcpcb.com/partdetail/C87065; ComponentLink3Description: LCSC Part URL; ComponentLink3URL: https://lcsc.com/product-detail/Inductors-SMD_Murata-Electronics-Murata-Electronics-LQM2HPN4R7MGCL_C87065.html
footprint IND-1008 (1008 (2520M) Inductor)
pins: 1, 2

## LQM2HPNR47MG0L
designator L?  Inductance: 470nH
Inductor, 470nH, ±20%, 40mΩ, 1.3A, SMD 1008; Manufacturer: Murata Electronics; Manufacturer Part Number: LQM2HPNR47MG0L; Self-Resonant Frequency: 100MHz; Package Size: 1008; JLCPCB Basic Part: No; JLCPCB Part Number: C701170; Supplier 1: LCSC; Category: Inductors; Supplier Part Number 1: C701170; Tolerance: ±20%; Rated Current: 1.3A; DC Resistance: 40mΩ; RoHS: Yes; ComponentLink1Description: Datasheet; ComponentLink1URL: https://wmsc.lcsc.com/wmsc/upload/file/pdf/v2/lcsc/2010201503_Murata-Electronics-LQM2HPNR47MG0L_C701170.pdf; ComponentLink2Description: JLCPCB Part URL; ComponentLink2URL: https://jlcpcb.com/partdetail/C701170; ComponentLink3Description: LCSC Part URL; ComponentLink3URL: https://lcsc.com/product-detail/Inductors-SMD_Murata-Electronics-Murata-Electronics-LQM2HPNR47MG0L_C701170.html
footprint IND-1008 (1008 (2520M) Inductor)
pins: 1, 2

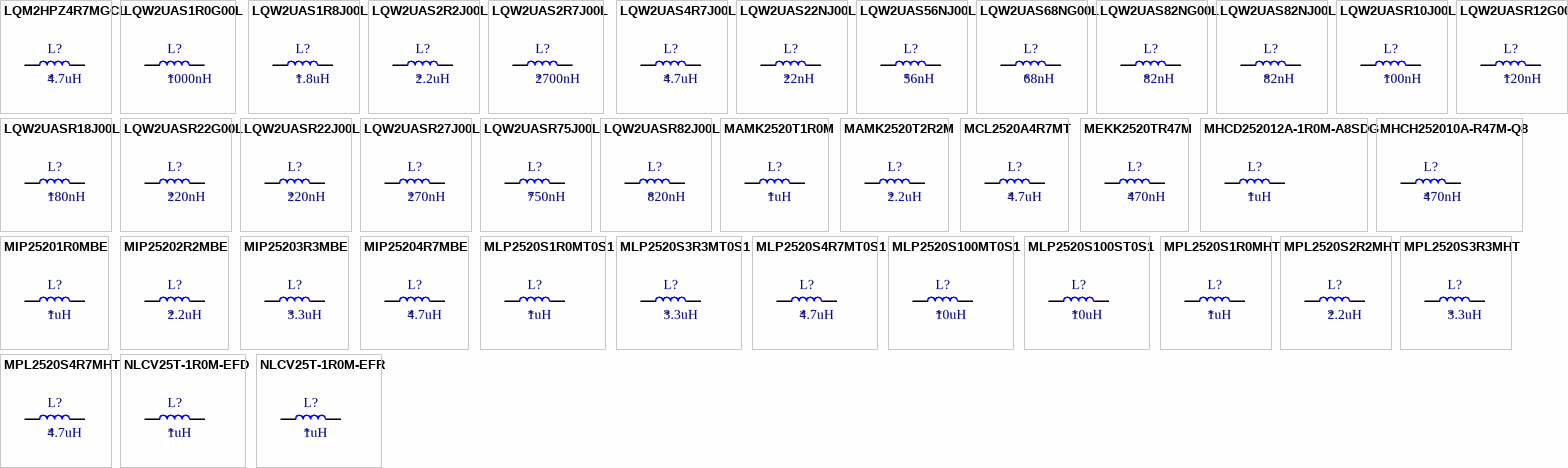
[diagram p5: symbols LQM2HPZ4R7MGCL to NLCV25T-1R0M-EFR]

## LQM2HPZ4R7MGCL
designator L?  Inductance: 4.7uH
Inductor, 4.7uH, ±20%, SMD 1008; Manufacturer: Murata Electronics; Manufacturer Part Number: LQM2HPZ4R7MGCL; Package Size: 1008; JLCPCB Basic Part: No; JLCPCB Part Number: C237309; Supplier 1: LCSC; Category: Inductors; Supplier Part Number 1: C237309; Tolerance: ±20%; RoHS: Yes; ComponentLink1Description: Datasheet; ComponentLink1URL: https://wmsc.lcsc.com/wmsc/upload/file/pdf/v2/lcsc/1811151159_Murata-Electronics-LQM2HPZ4R7MGCL_C237309.pdf; ComponentLink2Description: JLCPCB Part URL; ComponentLink2URL: https://jlcpcb.com/partdetail/C237309; ComponentLink3Description: LCSC Part URL; ComponentLink3URL: https://lcsc.com/product-detail/Inductors-SMD_Murata-Electronics-Murata-Electronics-LQM2HPZ4R7MGCL_C237309.html
footprint IND-1008 (1008 (2520M) Inductor)
pins: 1, 2

## LQW2UAS1R0G00L
designator L?  Inductance: 1000nH
Inductor, 1000nH, ±2%, 1.75Ω, SMD 1008; Manufacturer: Murata Electronics; Manufacturer Part Number: LQW2UAS1R0G00L; Self-Resonant Frequency: 290MHz; Q Factor: 35@50MHz; Package Size: 1008; JLCPCB Basic Part: No; JLCPCB Part Number: C337961; Supplier 1: LCSC; Category: Inductors; Supplier Part Number 1: C337961; Tolerance: ±2%; DC Resistance: 1.75Ω; RoHS: Yes; ComponentLink1Description: Datasheet; ComponentLink1URL: https://wmsc.lcsc.com/wmsc/upload/file/pdf/v2/lcsc/2304140030_Murata-Electronics-LQW2UAS1R0G00L_C337961.pdf; ComponentLink2Description: JLCPCB Part URL; ComponentLink2URL: https://jlcpcb.com/partdetail/C337961; ComponentLink3Description: LCSC Part URL; ComponentLink3URL: https://lcsc.com/product-detail/Inductors-SMD_Murata-Electronics-Murata-Electronics-LQW2UAS1R0G00L_C337961.html
footprint IND-1008 (1008 (2520M) Inductor)
pins: 1, 2

## LQW2UAS1R8J00L
designator L?  Inductance: 1.8uH
Inductor, 1.8uH, ±5%, 2.6Ω, 300mA, SMD 1008; Manufacturer: Murata Electronics; Manufacturer Part Number: LQW2UAS1R8J00L; Package Size: 1008; JLCPCB Basic Part: No; JLCPCB Part Number: C524646; Supplier 1: LCSC; Category: Inductors; Supplier Part Number 1: C524646; Tolerance: ±5%; Rated Current: 300mA; DC Resistance: 2.6Ω; RoHS: Yes; ComponentLink1Description: Datasheet; ComponentLink1URL: https://wmsc.lcsc.com/wmsc/upload/file/pdf/v2/lcsc/2304140030_Murata-Electronics-LQW2UAS1R8J00L_C524646.pdf; ComponentLink2Description: JLCPCB Part URL; ComponentLink2URL: https://jlcpcb.com/partdetail/C524646; ComponentLink3Description: LCSC Part URL; ComponentLink3URL: https://lcsc.com/product-detail/Power-Inductors_Murata-Electronics-Murata-Electronics-LQW2UAS1R8J00L_C524646.html
footprint IND-1008 (1008 (2520M) Inductor)
pins: 1, 2

## LQW2UAS2R2J00L
designator L?  Inductance: 2.2uH
Inductor, 2.2uH, ±5%, 2.8Ω, 280mA, SMD 1008; Manufacturer: Murata Electronics; Manufacturer Part Number: LQW2UAS2R2J00L; Package Size: 1008; JLCPCB Basic Part: No; JLCPCB Part Number: C703712; Supplier 1: LCSC; Category: Inductors; Supplier Part Number 1: C703712; Tolerance: ±5%; Rated Current: 280mA; DC Resistance: 2.8Ω; RoHS: Yes; ComponentLink1Description: Datasheet; ComponentLink1URL: https://wmsc.lcsc.com/wmsc/upload/file/pdf/v2/lcsc/2304140030_Murata-Electronics-LQW2UAS2R2J00L_C703712.pdf; ComponentLink2Description: JLCPCB Part URL; ComponentLink2URL: https://jlcpcb.com/partdetail/C703712; ComponentLink3Description: LCSC Part URL; ComponentLink3URL: https://lcsc.com/product-detail/Power-Inductors_Murata-Electronics-Murata-Electronics-LQW2UAS2R2J00L_C703712.html
footprint IND-1008 (1008 (2520M) Inductor)
pins: 1, 2

## LQW2UAS2R7J00L
designator L?  Inductance: 2700nH
Inductor, 2700nH, ±5%, 3.2Ω, SMD 1008; Manufacturer: Murata Electronics; Manufacturer Part Number: LQW2UAS2R7J00L; Self-Resonant Frequency: 110MHz; Q Factor: 22@25MHz; Package Size: 1008; JLCPCB Basic Part: No; JLCPCB Part Number: C237282; Supplier 1: LCSC; Category: Inductors; Supplier Part Number 1: C237282; Tolerance: ±5%; DC Resistance: 3.2Ω; RoHS: Yes; ComponentLink1Description: Datasheet; ComponentLink1URL: https://wmsc.lcsc.com/wmsc/upload/file/pdf/v2/lcsc/2304140030_Murata-Electronics-LQW2UAS2R7J00L_C237282.pdf; ComponentLink2Description: JLCPCB Part URL; ComponentLink2URL: https://jlcpcb.com/partdetail/C237282; ComponentLink3Description: LCSC Part URL; ComponentLink3URL: https://lcsc.com/product-detail/Inductors-SMD_Murata-Electronics-Murata-Electronics-LQW2UAS2R7J00L_C237282.html
footprint IND-1008 (1008 (2520M) Inductor)
pins: 1, 2

## LQW2UAS4R7J00L
designator L?  Inductance: 4.7uH
Inductor, 4.7uH, ±5%, 4Ω, 260mA, SMD 1008; Manufacturer: Murata Electronics; Manufacturer Part Number: LQW2UAS4R7J00L; Package Size: 1008; JLCPCB Basic Part: No; JLCPCB Part Number: C703710; Supplier 1: LCSC; Category: Inductors; Supplier Part Number 1: C703710; Tolerance: ±5%; Rated Current: 260mA; DC Resistance: 4Ω; RoHS: Yes; ComponentLink1Description: Datasheet; ComponentLink1URL: https://wmsc.lcsc.com/wmsc/upload/file/pdf/v2/lcsc/2304140030_Murata-Electronics-LQW2UAS4R7J00L_C703710.pdf; ComponentLink2Description: JLCPCB Part URL; ComponentLink2URL: https://jlcpcb.com/partdetail/C703710; ComponentLink3Description: LCSC Part URL; ComponentLink3URL: https://lcsc.com/product-detail/Power-Inductors_Murata-Electronics-Murata-Electronics-LQW2UAS4R7J00L_C703710.html
footprint IND-1008 (1008 (2520M) Inductor)
pins: 1, 2

## LQW2UAS22NJ00L
designator L?  Inductance: 22nH
Inductor, 22nH, ±5%, 120mΩ, 1A, SMD 1008; Manufacturer: Murata Electronics; Manufacturer Part Number: LQW2UAS22NJ00L; Package Size: 1008; JLCPCB Basic Part: No; JLCPCB Part Number: C341804; Supplier 1: LCSC; Category: Inductors; Supplier Part Number 1: C341804; Tolerance: ±5%; Rated Current: 1A; DC Resistance: 120mΩ; RoHS: Yes; ComponentLink1Description: Datasheet; ComponentLink1URL: https://wmsc.lcsc.com/wmsc/upload/file/pdf/v2/lcsc/2304140030_Murata-Electronics-LQW2UAS22NJ00L_C341804.pdf; ComponentLink2Description: JLCPCB Part URL; ComponentLink2URL: https://jlcpcb.com/partdetail/C341804; ComponentLink3Description: LCSC Part URL; ComponentLink3URL: https://lcsc.com/product-detail/Power-Inductors_Murata-Electronics-Murata-Electronics-LQW2UAS22NJ00L_C341804.html
footprint IND-1008 (1008 (2520M) Inductor)
pins: 1, 2

## LQW2UAS56NJ00L
designator L?  Inductance: 56nH
Inductor, 56nH, ±5%, 180mΩ, 1A, SMD 1008; Manufacturer: Murata Electronics; Manufacturer Part Number: LQW2UAS56NJ00L; Package Size: 1008; JLCPCB Basic Part: No; JLCPCB Part Number: C701162; Supplier 1: LCSC; Category: Inductors; Supplier Part Number 1: C701162; Tolerance: ±5%; Rated Current: 1A; DC Resistance: 180mΩ; RoHS: Yes; ComponentLink1Description: Datasheet; ComponentLink1URL: https://wmsc.lcsc.com/wmsc/upload/file/pdf/v2/lcsc/2010231205_Murata-Electronics-LQW2UAS56NJ00L_C701162.pdf; ComponentLink2Description: JLCPCB Part URL; ComponentLink2URL: https://jlcpcb.com/partdetail/C701162; ComponentLink3Description: LCSC Part URL; ComponentLink3URL: https://lcsc.com/product-detail/Power-Inductors_Murata-Electronics-Murata-Electronics-LQW2UAS56NJ00L_C701162.html
footprint IND-1008 (1008 (2520M) Inductor)
pins: 1, 2

## LQW2UAS68NG00L
designator L?  Inductance: 68nH
Inductor, 68nH, ±2%, 200mΩ, 1A, SMD 1008; Manufacturer: Murata Electronics; Manufacturer Part Number: LQW2UAS68NG00L; Package Size: 1008; JLCPCB Basic Part: No; JLCPCB Part Number: C703709; Supplier 1: LCSC; Category: Inductors; Supplier Part Number 1: C703709; Tolerance: ±2%; Rated Current: 1A; DC Resistance: 200mΩ; RoHS: Yes; ComponentLink1Description: Datasheet; ComponentLink1URL: https://wmsc.lcsc.com/wmsc/upload/file/pdf/v2/lcsc/2304140030_Murata-Electronics-LQW2UAS68NG00L_C703709.pdf; ComponentLink2Description: JLCPCB Part URL; ComponentLink2URL: https://jlcpcb.com/partdetail/C703709; ComponentLink3Description: LCSC Part URL; ComponentLink3URL: https://lcsc.com/product-detail/Power-Inductors_Murata-Electronics-Murata-Electronics-LQW2UAS68NG00L_C703709.html
footprint IND-1008 (1008 (2520M) Inductor)
pins: 1, 2

## LQW2UAS82NG00L
designator L?  Inductance: 82nH
Inductor, 82nH, ±2%, 220mΩ, 1A, SMD 1008; Manufacturer: Murata Electronics; Manufacturer Part Number: LQW2UAS82NG00L; Package Size: 1008; JLCPCB Basic Part: No; JLCPCB Part Number: C703708; Supplier 1: LCSC; Category: Inductors; Supplier Part Number 1: C703708; Tolerance: ±2%; Rated Current: 1A; DC Resistance: 220mΩ; RoHS: Yes; ComponentLink1Description: Datasheet; ComponentLink1URL: https://wmsc.lcsc.com/wmsc/upload/file/pdf/v2/lcsc/2304140030_Murata-Electronics-LQW2UAS82NG00L_C703708.pdf; ComponentLink2Description: JLCPCB Part URL; ComponentLink2URL: https://jlcpcb.com/partdetail/C703708; ComponentLink3Description: LCSC Part URL; ComponentLink3URL: https://lcsc.com/product-detail/Power-Inductors_Murata-Electronics-Murata-Electronics-LQW2UAS82NG00L_C703708.html
footprint IND-1008 (1008 (2520M) Inductor)
pins: 1, 2

## LQW2UAS82NJ00L
designator L?  Inductance: 82nH
Inductor, 82nH, ±5%, 220mΩ, SMD 1008; Manufacturer: Murata Electronics; Manufacturer Part Number: LQW2UAS82NJ00L; Self-Resonant Frequency: 1GHz; Q Factor: 60@350MHz; Package Size: 1008; JLCPCB Basic Part: No; JLCPCB Part Number: C237610; Supplier 1: LCSC; Category: Inductors; Supplier Part Number 1: C237610; Tolerance: ±5%; DC Resistance: 220mΩ; RoHS: Yes; ComponentLink1Description: Datasheet; ComponentLink1URL: https://wmsc.lcsc.com/wmsc/upload/file/pdf/v2/lcsc/2304140030_Murata-Electronics-LQW2UAS82NJ00L_C237610.pdf; ComponentLink2Description: JLCPCB Part URL; ComponentLink2URL: https://jlcpcb.com/partdetail/C237610; ComponentLink3Description: LCSC Part URL; ComponentLink3URL: https://lcsc.com/product-detail/Inductors-SMD_Murata-Electronics-Murata-Electronics-LQW2UAS82NJ00L_C237610.html
footprint IND-1008 (1008 (2520M) Inductor)
pins: 1, 2

## LQW2UASR10J00L
designator L?  Inductance: 100nH
Inductor, 100nH, ±5%, 560mΩ, 650mA, SMD 1008; Manufacturer: Murata Electronics; Manufacturer Part Number: LQW2UASR10J00L; Package Size: 1008; JLCPCB Basic Part: No; JLCPCB Part Number: C703707; Supplier 1: LCSC; Category: Inductors; Supplier Part Number 1: C703707; Tolerance: ±5%; Rated Current: 650mA; DC Resistance: 560mΩ; RoHS: Yes; ComponentLink1Description: Datasheet; ComponentLink1URL: https://wmsc.lcsc.com/wmsc/upload/file/pdf/v2/lcsc/2304140030_Murata-Electronics-LQW2UASR10J00L_C703707.pdf; ComponentLink2Description: JLCPCB Part URL; ComponentLink2URL: https://jlcpcb.com/partdetail/C703707; ComponentLink3Description: LCSC Part URL; ComponentLink3URL: https://lcsc.com/product-detail/Power-Inductors_Murata-Electronics-Murata-Electronics-LQW2UASR10J00L_C703707.html
footprint IND-1008 (1008 (2520M) Inductor)
pins: 1, 2

## LQW2UASR12G00L
designator L?  Inductance: 120nH
Inductor, 120nH, ±2%, 630mΩ, 650mA, SMD 1008; Manufacturer: Murata Electronics; Manufacturer Part Number: LQW2UASR12G00L; Package Size: 1008; JLCPCB Basic Part: No; JLCPCB Part Number: C703706; Supplier 1: LCSC; Category: Inductors; Supplier Part Number 1: C703706; Tolerance: ±2%; Rated Current: 650mA; DC Resistance: 630mΩ; RoHS: Yes; ComponentLink1Description: Datasheet; ComponentLink1URL: https://wmsc.lcsc.com/wmsc/upload/file/pdf/v2/lcsc/2304140030_Murata-Electronics-LQW2UASR12G00L_C703706.pdf; ComponentLink2Description: JLCPCB Part URL; ComponentLink2URL: https://jlcpcb.com/partdetail/C703706; ComponentLink3Description: LCSC Part URL; ComponentLink3URL: https://lcsc.com/product-detail/Power-Inductors_Murata-Electronics-Murata-Electronics-LQW2UASR12G00L_C703706.html
footprint IND-1008 (1008 (2520M) Inductor)
pins: 1, 2